# Altium schematic symbol library SCH - MCU - ATMEGA - MICROCHIP ATMEGA88PA-MMN QFN28.SchLib: 1 symbol
Pins are listed as number, name and electrical type; pins without a type are passive.

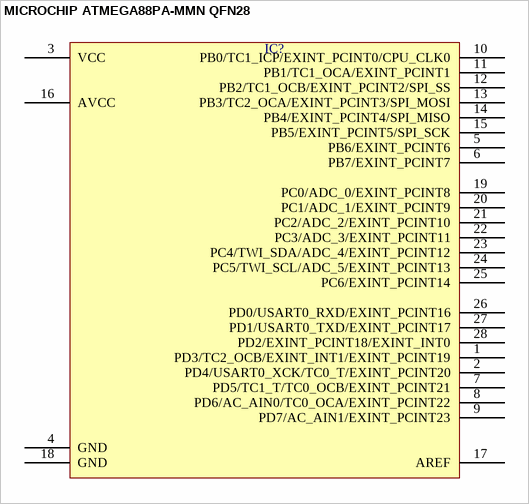
[diagram p0: symbol MICROCHIP ATMEGA88PA-MMN QFN28]

## MICROCHIP ATMEGA88PA-MMN QFN28
designator IC?  (value not drawn)
pins: 1 PD3/TC2_OCB/EXINT_INT1/EXINT_PCINT19, 2 PD4/USART0_XCK/TC0_T/EXINT_PCINT20, 3 VCC, 4 GND, 5 PB6/EXINT_PCINT6, 6 PB7/EXINT_PCINT7, 7 PD5/TC1_T/TC0_OCB/EXINT_PCINT21, 8 PD6/AC_AIN0/TC0_OCA/EXINT_PCINT22, 9 PD7/AC_AIN1/EXINT_PCINT23, 10 PB0/TC1_ICP/EXINT_PCINT0/CPU_CLK0, 11 PB1/TC1_OCA/EXINT_PCINT1, 12 PB2/TC1_OCB/EXINT_PCINT2/SPI_SS, 13 PB3/TC2_OCA/EXINT_PCINT3/SPI_MOSI, 14 PB4/EXINT_PCINT4/SPI_MISO, 15 PB5/EXINT_PCINT5/SPI_SCK, 16 AVCC, 17 AREF, 18 GND, 19 PC0/ADC_0/EXINT_PCINT8, 20 PC1/ADC_1/EXINT_PCINT9, 21 PC2/ADC_2/EXINT_PCINT10, 22 PC3/ADC_3/EXINT_PCINT11, 23 PC4/TWI_SDA/ADC_4/EXINT_PCINT12, 24 PC5/TWI_SCL/ADC_5/EXINT_PCINT13, 25 PC6/EXINT_PCINT14, 26 PD0/USART0_RXD/EXINT_PCINT16, 27 PD1/USART0_TXD/EXINT_PCINT17, 28 PD2/EXINT_PCINT18/EXINT_INT0